# Altium footprint library Connector.PcbLib: 116 footprints (part 5 of 8)
Each footprint in its own frame and in the unit in brackets; x right, y up, seen from the top. Pads: shape width x height; smd on the part's side, far side on the other; paste and mask are expansions set on the pad; w line width, h text height; cw(c..) or ccw(c..) is an arc to the next point about the centre after c.
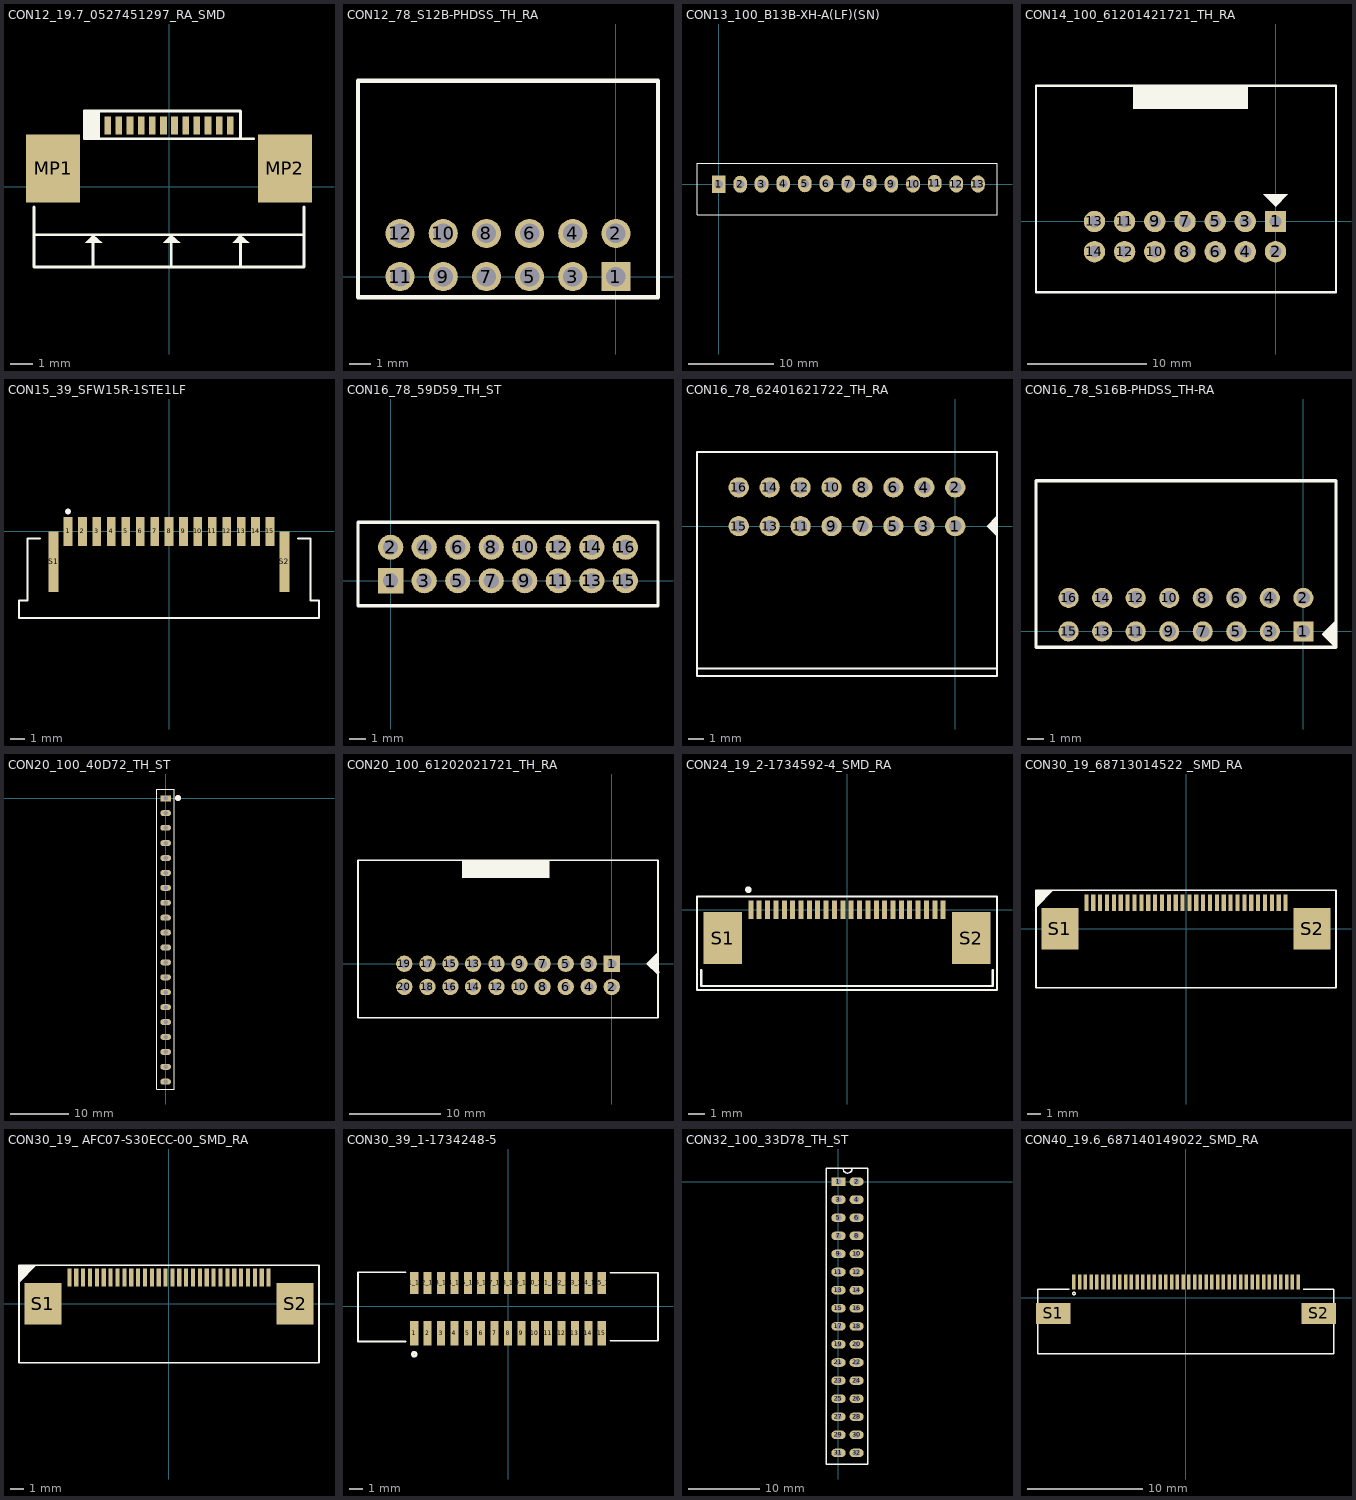
[diagram p4: the footprints below, top view; thin cyan lines are the x and y axes]

## CON12_19.7_0527451297_RA_SMD [mm] "CONNECTOR"
height 2
pads (14):
  rect 0.3x0.8 smd mask+0.076: 1(-2.75,2.75) 2(-2.25,2.75) 3(-1.75,2.75) 4(-1.25,2.75) 5(-0.75,2.75) 6(-0.25,2.75) 7(0.25,2.75) 8(0.75,2.75) 9(1.25,2.75) 10(1.75,2.75) 11(2.25,2.75) 12(2.75,2.75)
  rect 2.4x3.05 smd mask+0.076: MP1(-5.2,0.825) MP2(5.2,0.825)
Top Overlay:
  rectangle: -3.8,2.15 -3.1,3.4
  region: 3.2,-2.15 2.85,-2.5 3.6,-2.5
  region: 0.1,-2.15 -0.25,-2.5 0.5,-2.5
  region: -3.4,-2.15 -3.75,-2.5 -3,-2.5
  lines w0.127: -3.4,-3.6 -3.4,-2.15 ; 0.1,-3.6 0.1,-2.15 ; 3.2,-3.6 3.2,-2.15 ; 3.2,2.15 3.2,3.4 -3.8,3.4 -3.8,2.15 3.8,2.15 ; -6.05,-3.6 6.05,-3.6 6.05,-0.9 6.05,-2.15 -6.05,-2.15 -6.05,-0.9 -6.05,-3.6
3D body "52745-1297.stp": height 2.01, standoff 0.01, extent -6.05,-3.5 6.05,2.9

## CON12_78_S12B-PHDSS_TH_RA [mm] "CONNECTOR"
height 5
pads (12):
  rect 1.35x1.35 hole 0.9: 1(0,0)
  round 1.35 hole 0.9: 2(0,2) 3(-2,0) 4(-2,2) 5(-4,0) 6(-4,2) 7(-6,0) 8(-6,2) 9(-8,0) 10(-8,2) 11(-10,0) 12(-10,2)
Top Overlay:
  lines w0.2: -11.95,-0.95 -11.95,9.068 1.95,9.068 1.95,-0.95 -11.95,-0.95
3D body "S12B-PHDSS.STEP": height 5.13, standoff -2.87, extent -11.958,-0.447 1.942,9.053
3D body "PHDR-12VS.STEP": height 5.13, standoff 0.13, extent -12.069,4.321 1.831,11.621

## CON13_100_B13B-XH-A(LF)(SN) [mm] "JST CON"
height 9.8
pads (13):
  rect 1.6x2 hole 1: 1(0,0)
  oval 1.6x2 hole 1: 2(2.54,0) 3(5.03,0.027) 4(7.57,0.054) 5(10.11,0.054) 6(12.65,0.081) 7(15.19,0.027) 8(17.73,0.108) 9(20.27,0.027) 10(22.81,0.027) 11(25.35,0.108) 12(27.89,0.027) 13(30.43,0.027)
Top Overlay:
  lines w0.127: -2.54,-3.581 32.664,-3.581 32.664,2.464 0.517,2.464 -2.54,2.464 -2.54,-3.581
3D body "XHP-13.STEP": height 9.88, standoff 2.12, extent -2.388,-3.414 32.412,2.286
3D body "B13B-XH-A.STEP": height 7.01, standoff -3.39, extent -2.388,-3.439 32.512,2.311

## CON14_100_61201421721_TH_RA [mm] "Connector Header Through Hole, Right Angle 14 position 0.100\" (2.54mm)"
height 9.1
pads (14):
  rect 1.8x1.8 hole 1 paste-1000 mask+0: 1(0,0)
  round 1.8 hole 1 paste-1000 mask+0: 2(0,-2.54) 3(-2.54,0) 4(-2.54,-2.54) 5(-5.08,0) 6(-5.08,-2.54) 7(-7.62,0) 8(-7.62,-2.54) 9(-10.16,0) 10(-10.16,-2.54) 11(-12.7,0) 12(-12.7,-2.54) 13(-15.24,0) 14(-15.24,-2.54)
Top Overlay:
  rectangle: -12,9.485 -2.325,11.41
  region: -1.041,2.286 1.041,2.286 0,1.245
  lines w0.2: -20.16,-5.944 -20.16,11.41 5.09,11.41 5.09,-5.944 -20.16,-5.944
3D body "61201423021 (rev1).stp": height 8.86, standoff 2, extent -18.73,3.6 3.73,19.3
3D body "61201421721 (rev1).stp": height 9.43, standoff -2.4, extent -20.32,-2.825 5.12,10.725

## CON15_39_SFW15R-1STE1LF [mm] "15 PIN 1mm FPC Connector"
height 2.7
pads (17):
  rect 0.6x2 smd: 1(-7,0) 2(-6,0) 3(-5,0) 4(-4,0) 5(-3,0) 6(-2,0) 7(-1,0) 8(0,0) 9(1,0) 10(2,0) 11(3,0) 12(4,0) 13(5,0) 14(6,0) 15(7,0)
  rect 0.7x4.2 smd: S1(-8,-2.1) S2(8,-2.1)
Top Overlay:
  circle w0.2: c-7,1.373 r0.1
  lines w0.127: -8.946,-0.5 -9.8,-0.5 -9.8,-4.8 -10.4,-4.8 -10.4,-6 10.4,-6 10.4,-4.8 9.8,-4.8 9.8,-0.5 8.946,-0.5
3D body "52207-1585.stp": height 2.75, standoff 0.05, extent -10.624,-8.291 10.676,0.609

## CON16_78_59D59_TH_ST [mm] "Connector"
height 6.5
pads (16):
  rect 1.5x1.5 hole 0.9: 1(0,0)
  round 1.5 hole 0.9: 2(0,2) 3(2,0) 4(2,2) 5(4,0) 6(4,2) 7(6,0) 8(6,2) 9(8,0) 10(8,2) 11(10,0) 12(10,2) 13(12,0) 14(12,2) 15(14,0) 16(14,2)
Top Overlay:
  lines w0.2: -1.95,-1.5 15.95,-1.5 15.95,3.5 -1.95,3.5 -1.95,-1.5
3D body "User Library-B16B-PHDSS.step": height 6.51, standoff -2.99, extent -1.991,-1.51 15.909,3.49

## CON16_78_62401621722_TH_RA [mm] "Wurth Connector"
height 11.5
pads (16):
  round 1.308 hole 0.8: 1(0,0) 2(0,2.5) 3(-2,0) 4(-2,2.5) 5(-4,0) 6(-4,2.5) 7(-6,0) 8(-6,2.5) 9(-8,0) 10(-8,2.5) 11(-10,0) 12(-10,2.5) 13(-12,0) 14(-12,2.5) 15(-14,0) 16(-14,2.5)
Top Overlay:
  region: 2.692,0.66 2.032,0 2.692,-0.66
  lines w0.127: -16.7,-9.2 2.7,-9.2 ; -16.7,-9.2 -16.7,-9.7 2.7,-9.7 2.7,-9.2 ; -16.7,-9.2 -16.7,4.8 2.7,4.8 2.7,-9.2
3D body "62401621722_Download_STP_62401621722_rev1.stp": height 11.7, standoff -3.2, extent -16.761,-9.71 2.639,4.79
3D body "624016213322_Download_STP_624016213322_rev1.stp": height 11.5, standoff 0.3, extent -16.71,-14.171 2.69,-3.021

## CON16_78_S16B-PHDSS_TH-RA [mm] "CONNECTOR"
height 6
pads (16):
  rect 1.2x1.2 hole 0.8: 1(0,0)
  round 1.2 hole 0.8: 2(0,2) 3(-2,0) 4(-2,2) 5(-4,0) 6(-4,2) 7(-6,0) 8(-6,2) 9(-8,0) 10(-8,2) 11(-10,0) 12(-10,2) 13(-12,0) 14(-12,2) 15(-14,0) 16(-14,2)
Top Overlay:
  region: 1.95,0.6 1.175,-0.175 1.95,-0.95
  lines w0.127: 1.95,-0.95 1.175,-0.175 1.95,0.6
  lines w0.2: -15.95,-0.95 1.95,-0.95 1.95,9 -15.95,9 -15.95,-0.95
3D body "S16B-PHDSS.STEP": height 5.13, standoff -2.87, extent -15.865,-0.437 2.034,9.063
3D body "PHDR-16VS.STEP": height 5, standoff 0, extent -15.863,4.34 2.037,11.64

## CON20_100_40D72_TH_ST [mil] "Berg strip"
height 393.7
pads (21):
  rect 72x40 hole 31.5: 1(0,0)
  oval 72x40 hole 31.5: 2(0,-98.43) 3(0,-196.85) 4(0,-300) 5(0,-400) 6(0,-500) 7(0,-600) 8(0,-700) 9(0,-800) 10(0,-900) 11(0,-1000) 12(0,-1100) 13(0,-1200) 14(0,-1300) 15(0,-1400) 16(0,-1500) 17(0,-1600) 18(0,-1700) 19(0,-1800) 20(0,-1900)
  round 40 on Top Overlay: ""(83,2.57)
Top Overlay:
  lines w7.87: -58,-1949 57,-1949 57,62.99 -58,62.99 -58,-1949
3D body "pin_header_aw_109_20-t.stp": height 322.83, standoff -118.11, extent -51.14,-1949 47.14,51

## CON20_100_61202021721_TH_RA [mm] "Connector Header Through Hole, Right Angle 20 position 0.100\" (2.54mm)"
height 9.1
pads (20):
  rect 1.8x1.8 hole 1 paste-1000 mask+0: 1(0,0)
  round 1.8 hole 1 paste-1000 mask+0: 2(0,-2.54) 3(-2.54,0) 4(-2.54,-2.54) 5(-5.08,0) 6(-5.08,-2.54) 7(-7.62,0) 8(-7.62,-2.54) 9(-10.16,0) 10(-10.16,-2.54) 11(-12.7,0) 12(-12.7,-2.54) 13(-15.28,0) 14(-15.28,-2.54) 15(-17.78,0) 16(-17.78,-2.54) 17(-20.32,0) 18(-20.32,-2.54) 19(-22.86,0) 20(-22.86,-2.54)
Top Overlay:
  rectangle: -16.533,9.474 -6.858,11.399
  region: 5,1 5.041,0.959 5.041,-0.955 4.955,-0.955 4,0
  lines w0.2: -27.965,-5.944 5.09,-5.944 5.09,11.41 -27.965,11.41 -27.965,-5.944
  lines w0.381: 5,1 4,0 5.041,-0.955
3D body "61202023021_Download_STP_61202023021_rev1 (1).stp": height 8.86, standoff 2, extent -26.681,3.514 3.399,19.214
3D body "61202021721_Download_STP_61202021721_rev1.stp": height 9.13, standoff -2.7, extent -27.934,-2.953 5.126,10.597

## CON24_19_2-1734592-4_SMD_RA [mm] "24 PIN FPC Connector"
height 2.05
pads (26):
  rect 0.3x1.1 smd: 1(-5.75,0) 2(-5.25,0) 3(-4.75,0) 4(-4.25,0) 5(-3.75,0) 6(-3.25,0) 7(-2.75,0) 8(-2.25,0) 9(-1.75,0) 10(-1.25,0) 11(-0.75,0) 12(-0.25,0) 13(0.25,0) 14(0.75,0) 15(1.25,0) 16(1.75,0) 17(2.25,0) 18(2.75,0) 19(3.25,0) 20(3.75,0) 21(4.25,0) 22(4.75,0) 23(5.25,0) 24(5.75,0)
  rect 2.3x3.1 smd: S1(-7.42,-1.7) S2(7.42,-1.7)
Top Overlay:
  circle w0.2: c-5.9,1.2 r0.1
  lines w0.127: -8.715,-3.6 -8.715,-4.55 8.715,-4.55 8.715,-3.6 ; -8.965,-4.8 8.965,-4.8 8.965,0.8 -8.965,0.8 -8.965,-4.8
3D body "affc20-24-050-sht-t.stp": height 2.06, standoff 0.02, extent -8.737,-5.087 8.763,0.312

## CON30_19_68713014522 _SMD_RA [mm] "30 PIN FPC Connector"
height 2.05
pads (32):
  rect 0.3x1.2 smd: 1(-7.25,1.9) 2(-6.75,1.9) 3(-6.25,1.9) 4(-5.75,1.9) 5(-5.25,1.9) 6(-4.75,1.9) 7(-4.25,1.9) 8(-3.75,1.9) 9(-3.25,1.9) 10(-2.75,1.9) 11(-2.25,1.9) 12(-1.75,1.9) 13(-1.25,1.9) 14(-0.75,1.9) 15(-0.25,1.9) 16(0.25,1.9) 17(0.75,1.9) 18(1.25,1.9) 19(1.75,1.9) 20(2.25,1.9) 21(2.75,1.9) 22(3.25,1.9) 23(3.75,1.9) 24(4.25,1.9) 25(4.75,1.9) 26(5.25,1.9) 27(5.75,1.9) 28(6.25,1.9) 29(6.75,1.9) 30(7.25,1.9)
  rect 2.7x3 smd: S1(-9.18,0) S2(9.18,0)
Top Overlay:
  region: -10.922,2.794 -9.652,2.794 -10.922,1.524
  lines w0.127: -10.922,-4.295 -10.922,2.794 10.922,2.794 10.922,-4.295 -10.922,-4.295
3D body "FH12-30S-0.5SH(55)--3DModel-STEP-56544.STEP": height 2.09, standoff -0.01, extent -9.581,-4.295 9.519,2.105

## CON30_19_ AFC07-S30ECC-00_SMD_RA [mm] "FPC Connector"
height 2
pads (32):
  rect 0.3x1.3 smd: 1(-7.219,1.9) 2(-6.719,1.9) 3(-6.219,1.9) 4(-5.719,1.9) 5(-5.219,1.9) 6(-4.719,1.9) 7(-4.219,1.9) 8(-3.719,1.9) 9(-3.219,1.9) 10(-2.719,1.9) 11(-2.219,1.9) 12(-1.719,1.9) 13(-1.219,1.9) 14(-0.719,1.9) 15(-0.219,1.9) 16(0.281,1.9) 17(0.781,1.9) 18(1.281,1.9) 19(1.781,1.9) 20(2.281,1.9) 21(2.781,1.9) 22(3.281,1.9) 23(3.781,1.9) 24(4.281,1.9) 25(4.781,1.9) 26(5.281,1.9) 27(5.781,1.9) 28(6.281,1.9) 29(6.781,1.9) 30(7.281,1.9)
  rect 2.7x3 smd: S1(-9.149,0) S2(9.211,0)
Top Overlay:
  region: -10.891,2.794 -9.621,2.794 -10.891,1.524
  lines w0.127: -10.891,-4.295 10.953,-4.295 10.953,2.794 -10.891,2.794 -10.891,-4.295
3D body "FH12-30S-0.5SH(55)--3DModel-STEP-56544.STEP": height 2.09, standoff -0.01, extent -9.55,-4.295 9.55,2.105

## CON30_39_1-1734248-5 [mm] "15 PIN 1MM FPC Connector"
height 7.7
pads (30):
  rect 0.6x1.85 smd: 1(-7,-2.025) 2(-6,-2.025) 3(-5,-2.025) 4(-4,-2.025) 5(-3,-2.025) 6(-2,-2.025) 7(-1,-2.025) 8(0,-2.025) 9(1,-2.025) 10(2,-2.025) 11(3,-2.025) 12(4,-2.025) 13(5,-2.025) 14(6,-2.025) 15(7,-2.025)
  rect 0.6x1.65 smd: 1_1(-7,1.725) 2_1(-6,1.725) 3_1(-5,1.725) 4_1(-4,1.725) 5_1(-3,1.725) 6_1(-2,1.725) 7_1(-1,1.725) 8_1(0,1.725) 9_1(1,1.725) 10_1(2,1.725) 11_1(3,1.725) 12_1(4,1.725) 13_1(5,1.725) 14_1(6,1.725) 15_1(7,1.725)
Top Overlay:
  circle w0.2: c-7,-3.6 r0.141
  lines w0.127: -7.65,-2.642 -11.2,-2.642 -11.2,2.515 -7.65,2.515 ; 7.65,-2.591 11.2,-2.591 11.2,2.489 7.65,2.489
3D body "c-1-1734248-5-e-3d.stp": height 5.68, standoff 0, extent -11.2,-2.475 11.2,2.375

## CON32_100_33D78_TH_ST [mm] "Berg Strip"
height 11.5
pads (32):
  rect 2x1.2 hole 0.85: 1(0,0)
  oval 2x1.2 hole 0.85: 2(2.54,0) 3(0,-2.54) 4(2.54,-2.54) 5(0,-5.08) 6(2.54,-5.08) 7(0,-7.62) 8(2.54,-7.62) 9(0,-10.16) 10(2.54,-10.16) 11(0,-12.7) 12(2.54,-12.7) 13(0,-15.24) 14(2.54,-15.24) 15(0,-17.78) 16(2.54,-17.78) 17(0,-20.32) 18(2.54,-20.32) 19(0,-22.86) 20(2.54,-22.86) 21(0,-25.4) 22(2.54,-25.4) 23(0,-27.94) 24(2.54,-27.94) 25(0,-30.48) 26(2.54,-30.48) 27(0,-33.02) 28(2.54,-33.02) 29(0,-35.56) 30(2.54,-35.56) 31(0,-38.1) 32(2.54,-38.1)
Top Overlay:
  lines w0.2: 0.635,1.829 ccw(c1.27,1.829) 1.905,1.829 ; 0.819,1.854 4.089,1.854 4.089,-39.649 -1.7,-39.649 -1.7,1.854 1.721,1.854
3D body "70284434.stp": height 9.51, standoff -3.19, extent -1.3,-39.22 3.7,1.42

## CON40_19.6_687140149022_SMD_RA [mm] "FPC Connector"
height 2.2
pads (42):
  rect 0.3x1.3 smd: 1(-9.75,1.375) 2(-9.25,1.375) 3(-8.75,1.375) 4(-8.25,1.375) 5(-7.75,1.375) 6(-7.25,1.375) 7(-6.75,1.375) 8(-6.25,1.375) 9(-5.75,1.375) 10(-5.25,1.375) 11(-4.75,1.375) 12(-4.25,1.375) 13(-3.75,1.375) 14(-3.25,1.375) 15(-2.75,1.375) 16(-2.25,1.375) 17(-1.75,1.375) 18(-1.25,1.375) 19(-0.75,1.375) 20(-0.25,1.375) 21(0.25,1.375) 22(0.75,1.375) 23(1.25,1.375) 24(1.75,1.375) 25(2.25,1.375) 26(2.75,1.375) 27(3.25,1.375) 28(3.75,1.375) 29(4.25,1.375) 30(4.75,1.375) 31(5.25,1.375) 32(5.75,1.375) 33(6.25,1.375) 34(6.75,1.375) 35(7.25,1.375) 36(7.75,1.375) 37(8.25,1.375) 38(8.75,1.375) 39(9.25,1.375) 40(9.75,1.375)
  rect 3x1.8 smd: S1(-11.55,-1.375) S2(11.55,-1.375)
Top Overlay:
  circle w0.127: c-9.75,0.355 r0.11
  lines w0.127: -10.15,0.725 -12.9,0.725 -12.9,-2.455 -12.9,-4.875 12.856,-4.875 12.856,-2.515 12.856,0.725 10.18,0.725
3D body "affc20-40-050-sht-r.stp": height 2.07, standoff 0.03, extent -12.773,-4.017 12.727,1.382